# EAGLE library part MCP16301 (library JLB6_power)
Microchip 30V switch step down regulator 36V switch step down regulator (/H)
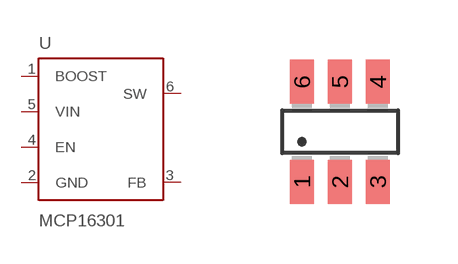
[diagram p14: symbol with the pads of SOT23-6; footprint SOT23-6]

Designator prefix -

## MCP16301  [SOT23-6]
1  BOOST
2  GND  pwr
3  FB  in
4  EN
5  VIN  in
6  SW  out

## Footprint SOT23-6 (pad centres in mm)
smd 0.6 x 1.1: 1 -0.95,-1.251; 2 0,-1.251; 3 0.95,-1.251; 4 0.95,1.251; 5 0,1.251; 6 -0.95,1.251